# EAGLE library part SN74CBT3126 (library custom-devices)
Quadruple FET bus switch with independent line switches.
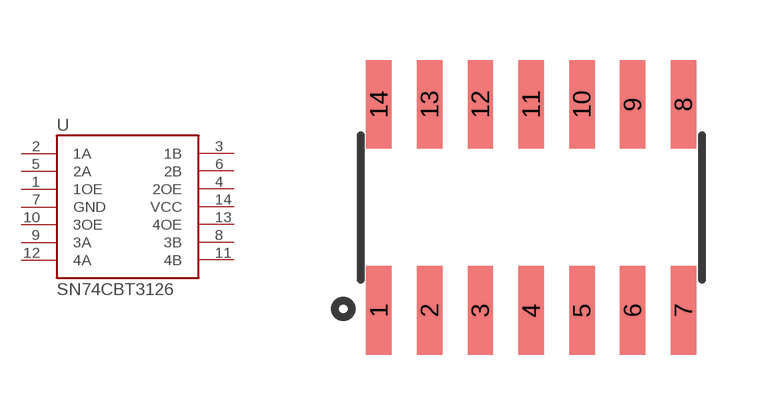
[diagram p43: symbol with the pads of SOIC-14; footprint SOIC-14]

Designator prefix U

## SN74CBT3126 (DIGIKEY: 296-1537-1-ND)  [SOIC-14]
1  1OE
2  1A
3  1B
4  2OE
5  2A
6  2B
7  GND
8  3B
9  3A
10  3OE
11  4B
12  4A
13  4OE
14  VCC

## Footprint SOIC-14 (pad centres in mm)
smd 0.635 x 2.223: 1 -3.81,-2.58; 2 -2.54,-2.58; 3 -1.27,-2.58; 4 0,-2.58; 5 1.27,-2.58; 6 2.54,-2.58; 7 3.81,-2.58; 8 3.81,2.58; 9 2.54,2.58; 10 1.27,2.58; 11 0,2.58; 12 -1.27,2.58; 13 -2.54,2.58; 14 -3.81,2.58